# EAGLE library part CP2130-GM (library Silicon Labs)
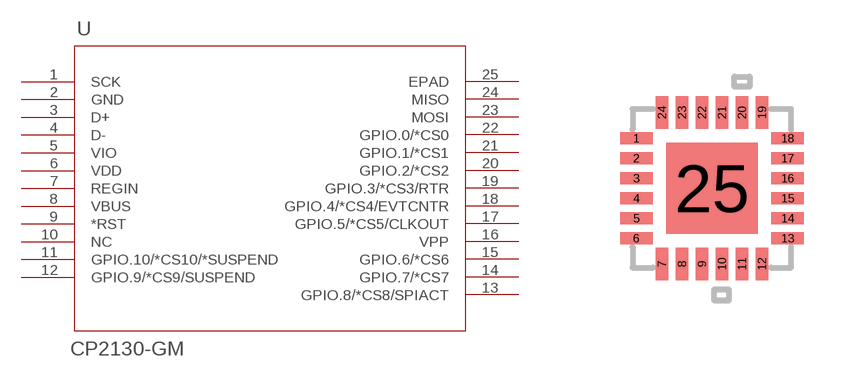
[diagram p3: symbol with the pads of QFN24_4X4; footprint QFN24_4X4]

Designator prefix U

## CP2130-GM (MANUFACTURER_PART_NUMBER: cp2130-gm; VENDOR: Silicon Labs)  [QFN24_4X4]
1  SCK  out
2  GND  pwr
3  D+
4  D-
5  VIO
6  VDD  pwr
7  REGIN  in
8  VBUS  in
9  *RST
10  NC  nc
11  GPIO.10/*CS10/*SUSPEND
12  GPIO.9/*CS9/SUSPEND
13  GPIO.8/*CS8/SPIACT
14  GPIO.7/*CS7
15  GPIO.6/*CS6
16  VPP  pwr
17  GPIO.5/*CS5/CLKOUT
18  GPIO.4/*CS4/EVTCNTR
19  GPIO.3/*CS3/RTR
20  GPIO.2/*CS2
21  GPIO.1/*CS1
22  GPIO.0/*CS0
23  MOSI  out
24  MISO  in
25  EPAD  pas

## Footprint QFN24_4X4 (pad centres in mm)
smd 0.813 x 0.305: 1 -1.892,1.25; 2 -1.892,0.75; 3 -1.892,0.25; 4 -1.892,-0.25; 5 -1.892,-0.75; 6 -1.892,-1.25; 13 1.892,-1.25; 14 1.892,-0.75; 15 1.892,-0.25; 16 1.892,0.25; 17 1.892,0.75; 18 1.892,1.25
smd 0.305 x 0.813: 7 -1.25,-1.892; 8 -0.75,-1.892; 9 -0.25,-1.892; 10 0.25,-1.892; 11 0.75,-1.892; 12 1.25,-1.892; 19 1.25,1.892; 20 0.75,1.892; 21 0.25,1.892; 22 -0.25,1.892; 23 -0.75,1.892; 24 -1.25,1.892
smd 2.286 x 2.286: 25 0,0